# Altium schematic symbol library OptoElectronics.SchLib: 2 symbols
Pins are listed as number, name and electrical type; pins without a type are passive.

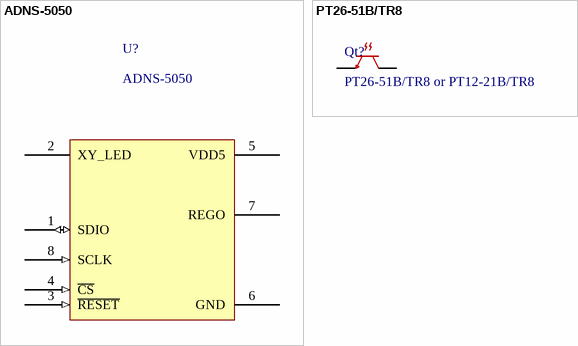
[diagram p0: symbols ADNS-5050 to PT26-51B/TR8]

## ADNS-5050
designator U?
Optical Mouse Navigation Sensor
footprint ADNS-5050
pins: 1 SDIO (io), 2 XY_LED (oc), 3 ~{RESET} (in), 4 ~{CS} (in), 5 VDD5 (power), 6 GND, 7 REGO (power), 8 SCLK (in)

## PT26-51B/TR8
designator Qt?, comment PT26-51B/TR8 or PT12-21B/TR8
Phototransistor 940nm Side View 1206 (3216 Metric); Supplier 1: Digi-Key; Supplier 2: Digi-Key; Supplier Part Number 2: 1080-1377-1-ND; Supplier Part Number 1: 1080-1387-1-ND
footprint PT26-51B/TR8
pins: C (oc), E (oe)